# Altium footprint library Altium-PCB Library.PcbLib: 24 footprints (part 1 of 2)
Each footprint in its own frame and in the unit in brackets; x right, y up, seen from the top. Pads: shape width x height; smd on the part's side, far side on the other; paste and mask are expansions set on the pad; w line width, h text height; cw(c..) or ccw(c..) is an arc to the next point about the centre after c.
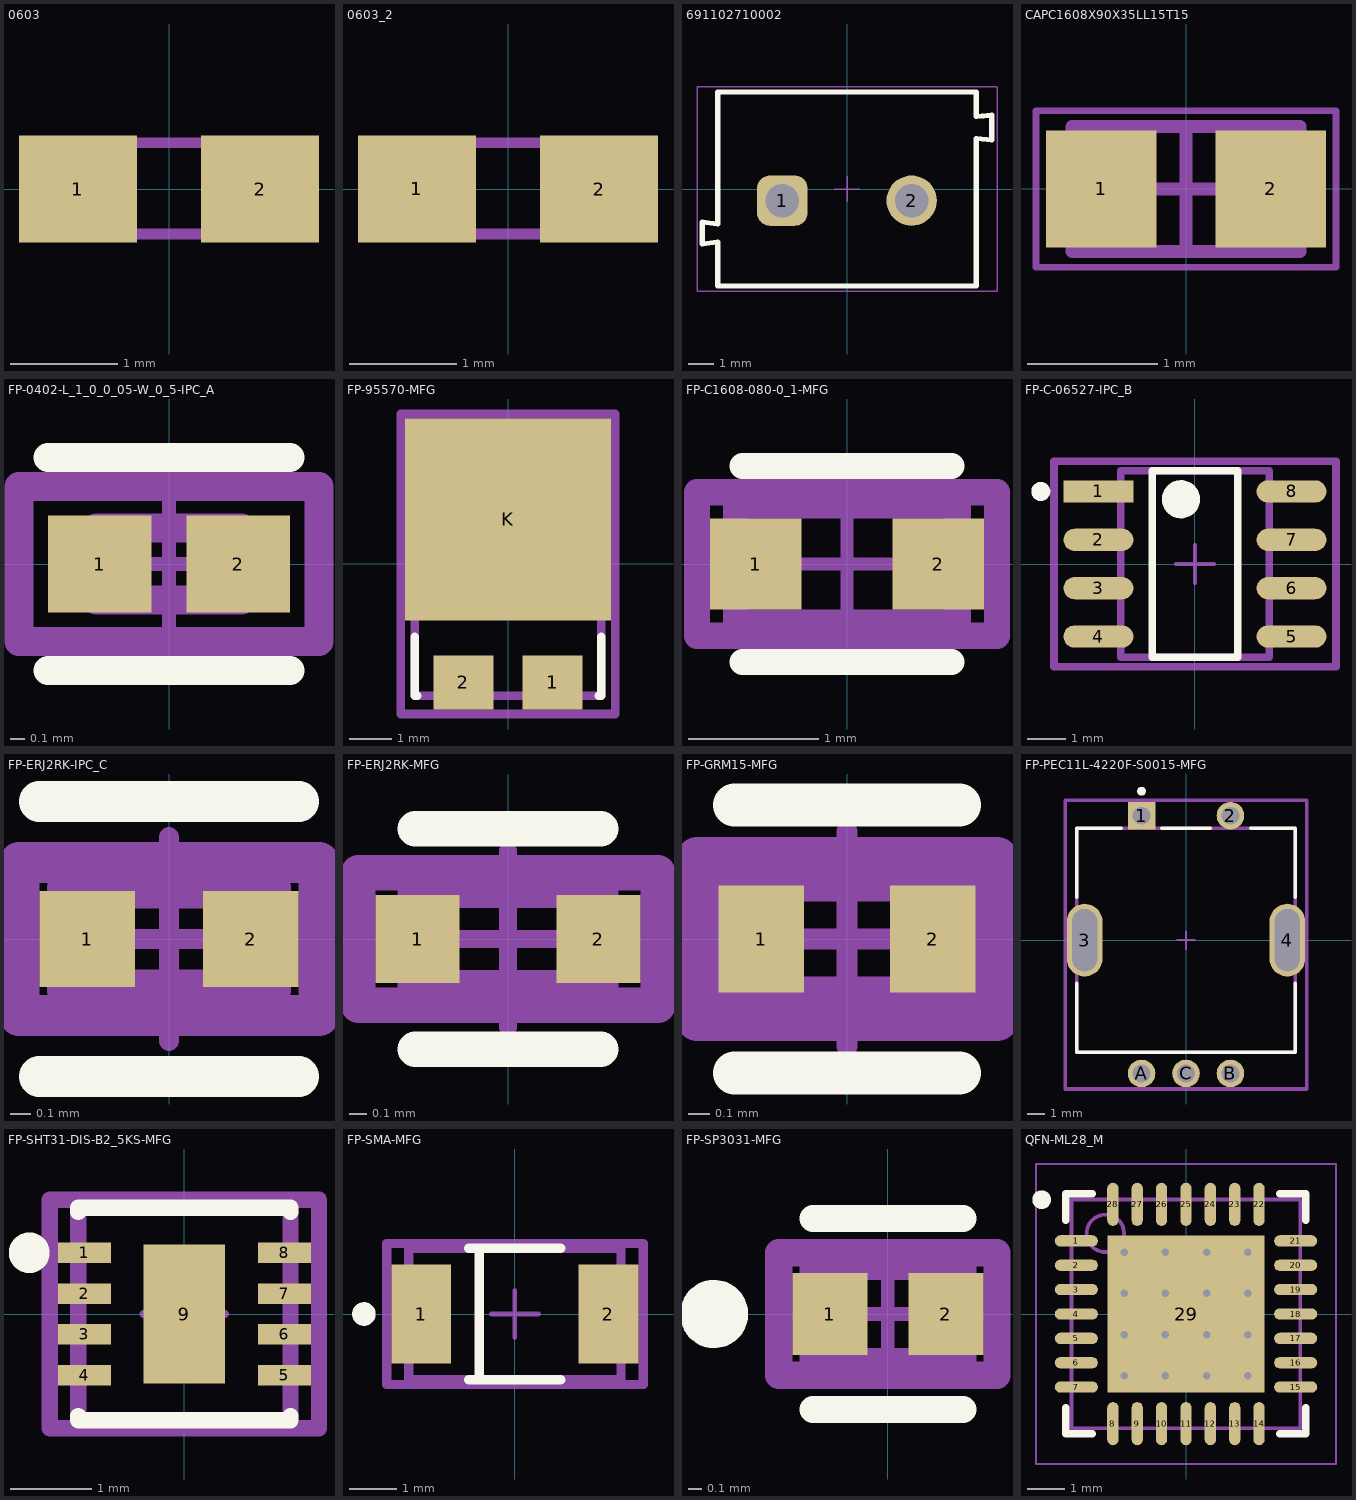
[diagram p0: the footprints below, top view; thin cyan lines are the x and y axes]

## 0603 [mm]
pads (2):
  rect 1.1x1 smd: 1(-0.85,0) 2(0.85,0)
Top 3D Body:
  region: 0.83,-0.47 0.331,-0.47 0.331,0.48 0.83,0.48
  region: -0.338,-0.471 -0.84,-0.471 -0.84,0.48 -0.338,0.48
  lines w0.102: -0.356,-0.419 0.356,-0.419 ; -0.356,0.432 0.356,0.432

## 0603_2 [mm]
pads (2):
  rect 1.1x1 smd: 1(-0.85,0) 2(0.85,0)
Top 3D Body:
  region: -0.338,-0.471 -0.84,-0.471 -0.84,0.48 -0.338,0.48
  region: 0.83,-0.471 0.331,-0.471 0.331,0.48 0.83,0.48
  lines w0.102: -0.356,-0.419 0.356,-0.419 ; -0.356,0.432 0.356,0.432

## 691102710002 [mm] "5,00mm - modular - blue - Horizontal entry with pressure clamp - 9,9 mm height - 02p"
height 9.9
pads (2):
  rrect50% 1.95x1.95 hole 1.3: 1(-2.5,-0.45)
  round 1.95 hole 1.3: 2(2.5,-0.45)
Top Overlay:
  lines w0.2: -5.6,-2.125 -5,-2.05 -5,-3.75 5,-3.75 5,1.95 5.6,1.9 5.6,2.85 5,2.8 5,3.75 -5,3.75 -5,-1.35 -5.6,-1.275 -5.6,-2.125
Top Designator:
  text ".Designator" at -7.498,-0.5 h1.5
Top Component Outline:
  lines w0.1: -5.6,-2.125 -5.6,-1.275 -5,-1.35 -5,3.75 5,3.75 5,2.8 5.6,2.85 5.6,1.9 5,1.95 5,-3.75 -5,-3.75 -5,-2.05 -5.6,-2.125
Top 3D Body:
  lines w0.1: -5.6,-2.125 -5,-2.05 -5,-3.75 5,-3.75 5,1.95 5.6,1.9 5.6,2.85 5,2.8 5,3.75 -5,3.75 -5,-1.35 -5.6,-1.275 -5.6,-2.125
Top Courtyard:
  lines w0.05: -5.8,-3.95 5.8,-3.95 5.8,3.95 -5.8,3.95 -5.8,-3.95
Top Component Center:
  lines w0.05: -0.5,0 0.5,0 ; 0,-0.5 0,0.5
3D body "691102710002.stp": height 9.96, standoff -3.44, extent -5.6,-3.75 5.6,3.75

## CAPC1608X90X35LL15T15 [mm] "Chip Capacitor, 2-Leads, Body 1.60x0.81mm, IPC High Density"
height 0.9
pads (2):
  rect 0.85x0.9 smd: 1(-0.65,0) 2(0.65,0)
Top 3D Body:
  lines w0.1: -0.875,-0.48 -0.875,0.48 0.875,0.48 0.875,-0.48 -0.875,-0.48
Top Courtyard:
  lines w0.05: -1.15,-0.6 -1.15,0.6 1.15,0.6 1.15,-0.6 -1.15,-0.6
  lines w0.1: -0.48,0 0.48,0 ; 0,-0.48 0,0.48
3D body: height 0.9, standoff 0, extent -0.525,-0.48 0.525,0.48
3D body: height 0.9, standoff 0, extent -0.875,-0.48 -0.525,0.48
3D body: height 0.9, standoff 0, extent 0.525,-0.48 0.875,0.48

## FP-0402-L_1_0_0_05-W_0_5-IPC_A [mm]
pads (2):
  rect 0.715x0.672 smd paste+0 mask+0: 1(-0.479,0) 2(0.479,0)
Top Overlay:
  lines w0.2: -0.836,-0.736 0.836,-0.736 ; -0.836,0.736 0.836,0.736
Top Assembly:
  lines w0.2: -1.036,-0.536 -1.036,0.536 1.036,0.536 1.036,-0.536 -1.036,-0.536
  text ".Designator" at 0,0.188 h1
Top 3D Body:
  lines w0.2: -0.5,-0.25 -0.5,0.25 0.5,0.25 0.5,-0.25 -0.5,-0.25
Top Courtyard:
  lines w0.2: -1.036,-0.536 -1.036,0.536 1.036,0.536 1.036,-0.536 -1.036,-0.536
Top Component Center:
  lines w0.1: -0.5,0 0.5,0 ; 0,-0.5 0,0.5
3D body "Cap_Taiyo_Yuden_QVS105CG0R9BVHF_eec.STEP": height 0.55, standoff 0, extent -0.5,-0.25 0.5,0.25

## FP-95570-MFG [mm]
pads (3):
  rect 1.4x1.27 smd paste+0 mask+0: 1(1.04,-2.765) 2(-1.04,-2.765)
  rect 4.8x4.72 smd paste+0 mask+0: K(0,1.04)
Top Overlay:
  lines w0.2: -2.175,-1.695 -2.175,-3.075 -2.115,-3.075 ; 2.115,-3.075 2.175,-3.075 2.175,-1.695
Top Assembly:
  lines w0.2: -2.5,-3.5 -2.5,3.5 2.5,3.5 2.5,-3.5 -2.5,-3.5
  text ".Designator" at 0,-0.001 h1
Top 3D Body:
  lines w0.2: -2.175,-3.075 -2.175,3.075 2.175,3.075 2.175,-3.075 -2.175,-3.075
Top Courtyard:
  lines w0.2: -2.5,-3.5 -2.5,3.5 2.5,3.5 2.5,-3.5 -2.5,-3.5
Top Component Center:
  lines w0.1: -0.5,0 0.5,0 ; 0,-0.5 0,0.5
3D body "Diode_Vishay_V10P10-M3-86A_eec.STEP": height 1.21, standoff 0, extent -2.3,-3.25 2.3,3.25

## FP-C1608-080-0_1-MFG [mm]
pads (2):
  rect 0.7x0.7 smd paste+0 mask+0: 1(-0.7,0) 2(0.7,0)
Top Overlay:
  lines w0.2: -0.8,-0.75 0.8,-0.75 ; -0.8,0.75 0.8,0.75
Top Assembly:
  lines w0.2: -1.15,-0.55 1.15,-0.55 1.15,0.55 -1.15,0.55 -1.15,-0.55
  text ".Designator" at 0,0.188 h1
Top 3D Body:
  lines w0.2: -0.85,-0.45 0.85,-0.45 0.85,0.45 -0.85,0.45 -0.85,-0.45
Top Courtyard:
  lines w0.2: -1.15,-0.55 1.15,-0.55 1.15,0.55 -1.15,0.55 -1.15,-0.55
Top Component Center:
  lines w0.1: -0.5,0 0.5,0 ; 0,-0.5 0,0.5
3D body "Cap_TDK_C1608X6S0G106K080AB_eec.STEP": height 0.9, standoff 0, extent -0.8,-0.4 0.8,0.4

## FP-C-06527-IPC_B [mm]
pads (8):
  rect 1.835x0.585 smd paste+0 mask+0: 1(-2.536,1.905)
  rrect100% 1.835x0.585 smd paste+0 mask+0: 2(-2.536,0.635) 3(-2.536,-0.635) 4(-2.536,-1.905) 5(2.536,-1.905) 6(2.536,-0.635) 7(2.536,0.635) 8(2.536,1.905)
Top Overlay:
  circle w0.25: c-4.05,1.905 r0.125
  circle w0.5: c-0.368,1.7 r0.25
  lines w0.2: -1.118,-2.45 -1.118,2.45 1.118,2.45 1.118,-2.45 -1.118,-2.45
Top Assembly:
  lines w0.2: -3.703,-2.7 -3.703,2.7 3.703,2.7 3.703,-2.7 -3.703,-2.7
  text ".Designator" at 0,0.188 h1
Top 3D Body:
  lines w0.2: -1.95,-2.45 -1.95,2.45 1.95,2.45 1.95,-2.45 -1.95,-2.45
Top Courtyard:
  lines w0.2: -3.703,-2.7 -3.703,2.7 3.703,2.7 3.703,-2.7 -3.703,-2.7
Top Component Center:
  lines w0.1: -0.5,0 0.5,0 ; 0,-0.5 0,0.5
3D body "Trans_Vishay_SI4214DDY-T1-GE3_eec.STEP": height 1.75, standoff 0, extent -3,-2.45 3,2.45

## FP-ERJ2RK-IPC_C [mm]
pads (2):
  rect 0.468x0.472 smd paste+0 mask+0: 1(-0.402,0) 2(0.402,0)
Top Overlay:
  lines w0.2: -0.636,-0.675 0.636,-0.675 ; -0.636,0.675 0.636,0.675
Top Assembly:
  lines w0.2: -0.736,-0.375 0.736,-0.375 0.736,0.375 -0.736,0.375 -0.736,-0.375
Top 3D Body:
  lines w0.2: -0.5,-0.25 0.5,-0.25 0.5,0.25 -0.5,0.25 -0.5,-0.25
Top Courtyard:
  lines w0.2: -0.736,-0.375 0.736,-0.375 0.736,0.375 -0.736,0.375 -0.736,-0.375
Top Component Center:
  lines w0.1: -0.5,0 0.5,0 ; 0,-0.5 0,0.5
3D body "Res_Panasonic_ERJ-2RKF10R0X_eec.STEP": height 0.4, standoff 0, extent -0.499,-0.25 0.501,0.25

## FP-ERJ2RK-MFG [mm]
pads (2):
  rect 0.475x0.5 smd paste+0 mask+0: 1(-0.513,0) 2(0.513,0)
Top Overlay:
  lines w0.2: -0.525,-0.625 0.525,-0.625 ; -0.525,0.625 0.525,0.625
Top Assembly:
  lines w0.2: -0.85,-0.375 -0.85,0.375 0.85,0.375 0.85,-0.375 -0.85,-0.375
Top 3D Body:
  lines w0.2: -0.525,-0.275 -0.525,0.275 0.525,0.275 0.525,-0.275 -0.525,-0.275
Top Courtyard:
  lines w0.2: -0.85,-0.375 -0.85,0.375 0.85,0.375 0.85,-0.375 -0.85,-0.375
Top Component Center:
  lines w0.1: -0.5,0 0.5,0 ; 0,-0.5 0,0.5
3D body "Res_Panasonic_ERJ-2RKF10R0X_eec.STEP": height 0.4, standoff 0, extent -0.499,-0.25 0.501,0.25

## FP-GRM15-MFG [mm]
pads (2):
  rect 0.4x0.5 smd paste+0 mask+0: 1(-0.4,0) 2(0.4,0)
Top Overlay:
  lines w0.2: -0.525,-0.625 0.525,-0.625 ; -0.525,0.625 0.525,0.625
Top Assembly:
  lines w0.2: -0.7,-0.375 0.7,-0.375 0.7,0.375 -0.7,0.375 -0.7,-0.375
Top 3D Body:
  lines w0.2: -0.525,-0.275 0.525,-0.275 0.525,0.275 -0.525,0.275 -0.525,-0.275
Top Courtyard:
  lines w0.2: -0.7,-0.375 0.7,-0.375 0.7,0.375 -0.7,0.375 -0.7,-0.375
Top Component Center:
  lines w0.1: -0.5,0 0.5,0 ; 0,-0.5 0,0.5
3D body "Cap_Murata_GRM155R71C104KA88D_eec.STEP": height 0.33, standoff 0.01, extent -0.3,-0.16 0.3,0.16

## FP-PEC11L-4220F-S0015-MFG [mm]
pads (7):
  rect 1.55x1.55 hole 1 paste-2539.97 mask+0: 1(-2.5,7)
  round 1.55 hole 1 paste-2539.97 mask+0: 2(2.5,7) A(-2.5,-7.5) B(2.5,-7.5) C(0,-7.5)
  rrect100% 2x4.1 hole 3.5 slot 1.4 at 0 deg paste-2539.97 mask+0: 3(-5.7,0) 4(5.7,0)
Top Overlay:
  circle w0.25: c-2.5,8.375 r0.125
  lines w0.2: -6.15,-2.425 -6.15,-6.3 6.15,-6.3 6.15,-2.425 ; -6.15,2.425 -6.15,6.3 -3.65,6.3 ; -1.35,6.3 1.35,6.3 ; 3.65,6.3 6.15,6.3 6.15,2.425
Top Assembly:
  lines w0.2: -6.8,-8.375 6.8,-8.375 6.8,7.875 -6.8,7.875 -6.8,-8.375
  text ".Designator" at 0,-0.062 h1
Top 3D Body:
  lines w0.2: -6.15,-6.3 6.15,-6.3 6.15,6.3 -6.15,6.3 -6.15,-6.3
Top Courtyard:
  lines w0.2: -6.8,-8.375 6.8,-8.375 6.8,7.875 -6.8,7.875 -6.8,-8.375
Top Component Center:
  lines w0.1: -0.5,0 0.5,0 ; 0,-0.5 0,0.5
3D body "Enc_Bourns_Inc_PEC11L-4220F-S0015_eec.STEP": height 0.25, standoff 0, extent -6.8,-8.375 6.8,7.875

## FP-SHT31-DIS-B2_5KS-MFG [mm]
height 3.35
pads (9):
  rect 0.65x0.25 smd paste-1000 mask+0: 1(-1.225,0.75) 2(-1.225,0.25) 3(-1.225,-0.25) 4(-1.225,-0.75) 5(1.225,-0.75) 6(1.225,-0.25) 7(1.225,0.25) 8(1.225,0.75)
  rect 1x1.7 smd paste-1000 mask+0: 9(0,0)
Top Overlay:
  circle w0.25: c-1.9,0.75 r0.125
  lines w0.2: -1.3,-1.25 -1.3,-1.3 1.3,-1.3 1.3,-1.25 ; -1.3,1.25 -1.3,1.3 1.3,1.3 1.3,1.25
Top Paste:
  rectangle: -1.55,0.625 -1,0.875
  rectangle: -1.55,0.125 -1,0.375
  rectangle: -1.55,-0.375 -1,-0.125
  rectangle: -1.55,-0.875 -1,-0.625
  rectangle: 1,0.625 1.55,0.875
  rectangle: 1,0.125 1.55,0.375
  rectangle: 1,-0.375 1.55,-0.125
  rectangle: 1,-0.875 1.55,-0.625
  rectangle: -0.45,-0.8 0.45,0.8
Top Assembly:
  lines w0.2: -1.65,-1.4 1.65,-1.4 1.65,1.4 -1.65,1.4 -1.65,-1.4
  text ".Designator" at 0,0.188 h1
Top 3D Body:
  lines w0.2: -1.3,-1.3 1.3,-1.3 1.3,1.3 -1.3,1.3 -1.3,-1.3
Top Courtyard:
  lines w0.2: -1.65,-1.4 1.65,-1.4 1.65,1.4 -1.65,1.4 -1.65,-1.4
Top Component Center:
  lines w0.1: -0.5,0 0.5,0 ; 0,-0.5 0,0.5
3D body "IC_Sensirion_SHT31-DIS-B2_5KS_eec.STEP": height 1, standoff 0, extent -1.25,-1.25 1.25,1.25

## FP-SMA-MFG [mm]
pads (2):
  rect 1.27x2.1 smd paste+0 mask+0: 1(-1.985,0) 2(1.985,0)
Top Overlay:
  circle w0.25: c-3.2,0 r0.125
  lines w0.2: -0.975,-1.395 0.975,-1.395 ; -0.975,1.395 0.975,1.395 ; -0.75,-1.3 -0.75,1.3
Top Assembly:
  lines w0.2: -2.72,-1.495 2.72,-1.495 2.72,1.495 -2.72,1.495 -2.72,-1.495
  text ".Designator" at 0,-0.001 h1
Top 3D Body:
  lines w0.2: -2.25,-1.395 2.25,-1.395 2.25,1.395 -2.25,1.395 -2.25,-1.395
Top Courtyard:
  lines w0.2: -2.72,-1.495 2.72,-1.495 2.72,1.495 -2.72,1.495 -2.72,-1.495
Top Component Center:
  lines w0.1: -0.5,0 0.5,0 ; 0,-0.5 0,0.5
3D body "Diode_Bourns_Inc_SMAJ6_0A_eec.STEP": height 2.62, standoff 0, extent -2.605,-1.302 2.605,1.302

## FP-SP3031-MFG [mm]
pads (2):
  rect 0.55x0.6 smd paste+0 mask+0: 1(-0.425,0) 2(0.425,0)
Top Overlay:
  circle w0.25: c-1.275,0 r0.125
  lines w0.2: -0.55,-0.7 0.55,-0.7 ; -0.55,0.7 0.55,0.7
Top Assembly:
  lines w0.2: -0.8,-0.45 0.8,-0.45 0.8,0.45 -0.8,0.45 -0.8,-0.45
  text ".Designator" at 0,-0.001 h1
Top 3D Body:
  lines w0.2: -0.55,-0.35 0.55,-0.35 0.55,0.35 -0.55,0.35 -0.55,-0.35
Top Courtyard:
  lines w0.2: -0.8,-0.45 0.8,-0.45 0.8,0.45 -0.8,0.45 -0.8,-0.45
Top Component Center:
  lines w0.1: -0.5,0 0.5,0 ; 0,-0.5 0,0.5
3D body "Diode_Littelfuse_Inc_SP3031-01ETG_eec.STEP": height 0.6, standoff 0, extent -0.5,-0.3 0.5,0.3

## QFN-ML28_M [mm] "QFN, 28-Leads, Body 6x6mm, Pitch 0.65mm, Thermal Pad 4.2x4.2mm, IPC Low Density"
height 1
pads (29):
  oval 1.15x0.3 smd: 1(-2.925,1.95) 2(-2.925,1.3) 3(-2.925,0.65) 4(-2.925,0) 5(-2.925,-0.65) 6(-2.925,-1.3) 7(-2.925,-1.95) 15(2.925,-1.95) 16(2.925,-1.3) 17(2.925,-0.65) 18(2.925,0) 19(2.925,0.65) 20(2.925,1.3) 21(2.925,1.95)
  oval 0.3x1.15 smd: 8(-1.95,-2.925) 9(-1.3,-2.925) 10(-0.65,-2.925) 11(0,-2.925) 12(0.65,-2.925) 13(1.3,-2.925) 14(1.95,-2.925) 22(1.95,2.925) 23(1.3,2.925) 24(0.65,2.925) 25(0,2.925) 26(-0.65,2.925) 27(-1.3,2.925) 28(-1.95,2.925)
  rect 4.2x4.2 smd: 29(0,0)
via -1.65,1.65 diameter 0.5 hole 0.2
via -0.55,1.65 diameter 0.5 hole 0.2
via 0.55,1.65 diameter 0.5 hole 0.2
via 1.65,1.65 diameter 0.5 hole 0.2
via -1.65,0.55 diameter 0.5 hole 0.2
via -0.55,0.55 diameter 0.5 hole 0.2
via 0.55,0.55 diameter 0.5 hole 0.2
via 1.65,0.55 diameter 0.5 hole 0.2
via -1.65,-0.55 diameter 0.5 hole 0.2
via -0.55,-0.55 diameter 0.5 hole 0.2
via 0.55,-0.55 diameter 0.5 hole 0.2
via 1.65,-0.55 diameter 0.5 hole 0.2
via -1.65,-1.65 diameter 0.5 hole 0.2
via -0.55,-1.65 diameter 0.5 hole 0.2
via 0.55,-1.65 diameter 0.5 hole 0.2
via 1.65,-1.65 diameter 0.5 hole 0.2
Top Overlay:
  circle w0.25: c-3.85,3.05 r0.125
  lines w0.2: -3.2,-2.5 -3.2,-3.2 -2.5,-3.2 ; -3.2,2.5 -3.2,3.2 -2.5,3.2 ; 2.5,-3.2 3.2,-3.2 3.2,-2.5 ; 2.5,3.2 3.2,3.2 3.2,2.5
Top 3D Body:
  circle w0.1: c-2.15,2.15 r0.5
  lines w0.1: -3.05,-3.05 -3.05,3.05 3.05,3.05 3.05,-3.05 -3.05,-3.05
Top Courtyard:
  lines w0.05: -4,-4 -4,4 4,4 4,-4 -4,-4
  lines w0.1: -0.5,0 0.5,0 ; 0,-0.5 0,0.5
3D body: height 1, standoff 0, extent -3.05,-3.05 3.05,3.05